# Altium footprint library Diode_Vishay_Semiconductor_1N5408-E3-54_eec_Recommended_Land_Pattern .PcbLib: 1 footprints
Each footprint in its own frame and in the unit in brackets; x right, y up, seen from the top. Pads: shape width x height; smd on the part's side, far side on the other; paste and mask are expansions set on the pad; w line width, h text height; cw(c..) or ccw(c..) is an arc to the next point about the centre after c.
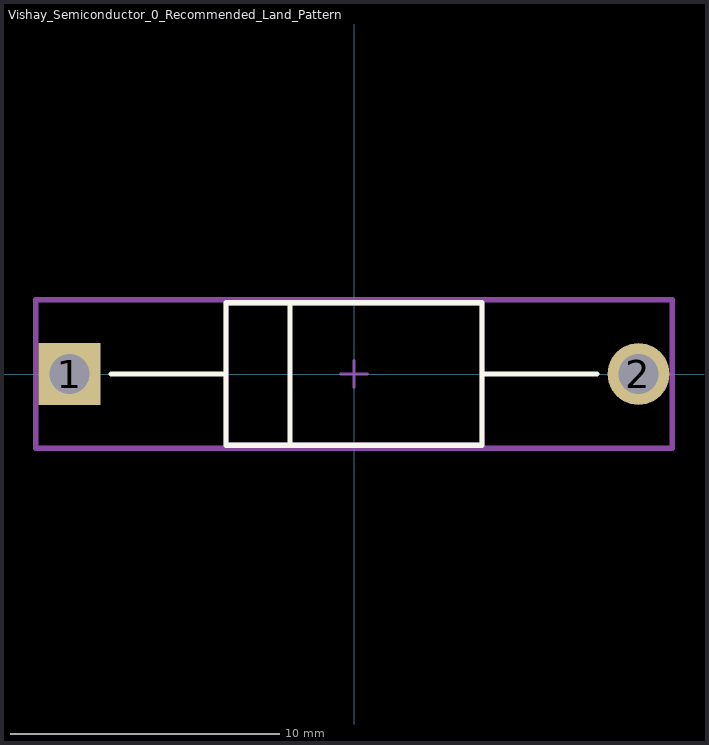
[diagram p0: the footprint, top view; thin cyan lines are the x and y axes]

## Vishay_Semiconductor_0_Recommended_Land_Pattern [mm]
pads (2):
  rect 2.3x2.3 hole 1.5 paste-1000 mask+0: 1(-10.558,0)
  round 2.3 hole 1.5 paste-1000 mask+0: 2(10.558,0)
Top Overlay:
  lines w0.2: -9.008,0 -4.75,0 ; -2.375,-2.58 -2.375,2.58 ; 4.75,0 9.008,0 ; -4.75,-2.65 4.75,-2.65 4.75,2.65 -4.75,2.65 -4.75,-2.65
Mechanical 10:
  lines w0.2: -11.808,-2.75 11.808,-2.75 11.808,2.75 -11.808,2.75 -11.808,-2.75
  text ".Designator" at 0,0 h1
Mechanical 12:
  lines w0.2: -4.75,-2.65 4.75,-2.65 4.75,2.65 -4.75,2.65 -4.75,-2.65
Mechanical 15:
  lines w0.1: -0.5,0 0.5,0 ; 0,-0.5 0,0.5
  lines w0.2: -11.808,-2.75 11.808,-2.75 11.808,2.75 -11.808,2.75 -11.808,-2.75
3D body "Diode_Vishay_Semiconductor_1N5408-E3-54_eec.STEP": height 0.25, standoff 0, extent -11.808,-2.75 11.808,2.75